# Altium footprint library FootprintLib.PcbLib: 23 footprints (part 2 of 2)
Each footprint in its own frame and in the unit in brackets; x right, y up, seen from the top. Pads: shape width x height; smd on the part's side, far side on the other; paste and mask are expansions set on the pad; w line width, h text height; cw(c..) or ccw(c..) is an arc to the next point about the centre after c.
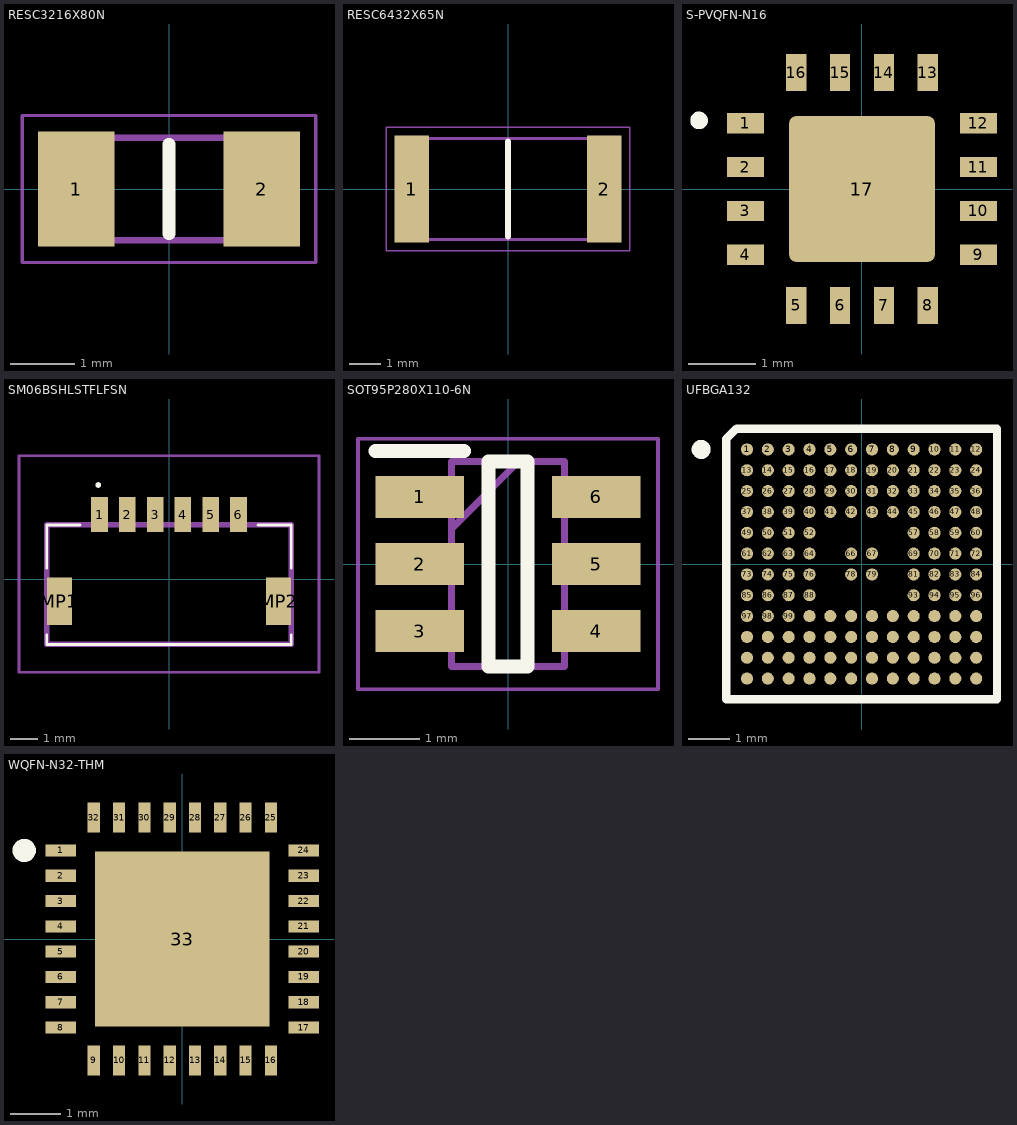
[diagram p1: the footprints below, top view; thin cyan lines are the x and y axes]

## RESC3216X80N [mm]
pads (2):
  rect 1.2x1.8 smd: 1(-1.45,0) 2(1.45,0)
Top Overlay:
  lines w0.2: 0,-0.7 0,0.7
Mechanical 13:
  lines w0.1: -1.6,-0.8 1.6,-0.8 1.6,0.8 -1.6,0.8 -1.6,-0.8
Mechanical 15:
  lines w0.05: -2.3,-1.15 2.3,-1.15 2.3,1.15 -2.3,1.15 -2.3,-1.15
3D body "LRMAM1206-R005FT5.stp": height 0.8, standoff 0, extent -1.6,-0.8 1.6,0.8

## RESC6432X65N [mm]
pads (2):
  rect 1.1x3.4 smd: 1(-3.05,0) 2(3.05,0)
Top Overlay:
  lines w0.2: 0,-1.5 0,1.5
Mechanical 13:
  lines w0.1: -3.175,-1.6 3.175,-1.6 3.175,1.6 -3.175,1.6 -3.175,-1.6
Mechanical 15:
  lines w0.05: -3.85,-1.95 3.85,-1.95 3.85,1.95 -3.85,1.95 -3.85,-1.95
3D body "CRGCQ2512F18R.stp": height 0.65, standoff 0, extent -3.175,-1.6 3.175,1.6

## S-PVQFN-N16 [mm]
pads (17):
  rect 0.55x0.3 smd: 1(-1.725,0.975) 2(-1.725,0.325) 3(-1.725,-0.325) 4(-1.725,-0.975) 9(1.725,-0.975) 10(1.725,-0.325) 11(1.725,0.325) 12(1.725,0.975)
  rect 0.3x0.55 smd: 5(-0.975,-1.725) 6(-0.325,-1.725) 7(0.325,-1.725) 8(0.975,-1.725) 13(0.975,1.725) 14(0.325,1.725) 15(-0.325,1.725) 16(-0.975,1.725)
  rrect10% 2.16x2.16 smd: 17(0,0)
Top Overlay:
  circle w0.2: c-2.413,1.016 r0.03
3D body "INA4290A5IRGVR.stp": height 1, standoff 0, extent -2,-2 2,2

## SM06BSHLSTFLFSN [mm]
pads (8):
  rect 0.6x1.25 smd: 1(-2.5,2.337) 2(-1.5,2.337) 3(-0.5,2.337) 4(0.5,2.337) 5(1.5,2.337) 6(2.5,2.337)
  rect 0.9x1.7 smd: MP1(-3.95,-0.788) MP2(3.95,-0.788)
Top Overlay:
  lines w0.1: -4.4,-2 -4.4,-2.337 4.4,-2.337 4.4,-2 ; -4.4,0.4 -4.4,1.962 -3.2,1.962 ; 3.2,1.962 4.4,1.962 4.4,0.4 ; -2.6,3.4 ccw(c-2.55,3.4) -2.5,3.4 ccw(c-2.55,3.4) -2.6,3.4
Mechanical 13:
  lines w0.2: -4.4,-2.337 4.4,-2.337 4.4,1.962 -4.4,1.962 -4.4,-2.337
Mechanical 15:
  lines w0.1: -5.4,-3.337 5.4,-3.337 5.4,4.45 -5.4,4.45 -5.4,-3.337
3D body "SM06B-SHLS-TF.STEP": height 1.8, standoff 0, extent -4.4,-2.5 4.4,2.5

## SOT95P280X110-6N [mm]
pads (6):
  rect 1.25x0.6 smd: 1(-1.25,0.95) 2(-1.25,0) 3(-1.25,-0.95) 4(1.25,-0.95) 5(1.25,0) 6(1.25,0.95)
Top Overlay:
  lines w0.2: -1.875,1.6 -0.625,1.6 ; -0.275,-1.45 0.275,-1.45 0.275,1.45 -0.275,1.45 -0.275,-1.45
Mechanical 13:
  lines w0.1: -0.8,0.5 0.15,1.45 ; -0.8,-1.45 0.8,-1.45 0.8,1.45 -0.8,1.45 -0.8,-1.45
Mechanical 15:
  lines w0.05: -2.125,-1.775 2.125,-1.775 2.125,1.775 -2.125,1.775 -2.125,-1.775
3D body "ADC121C021CIMK_NOPB.stp": height 0.97, standoff 0, extent -1.4,-1.45 1.4,1.45

## UFBGA132 [mm]
pads (132):
  round 0.29 smd: 1(-2.75,2.75) 2(-2.25,2.75) 3(-1.75,2.75) 4(-1.25,2.75) 5(-0.75,2.75) 6(-0.25,2.75) 7(0.25,2.75) 8(0.75,2.75) 9(1.25,2.75) 10(1.75,2.75) 11(2.25,2.75) 12(2.75,2.75) 13(-2.75,2.25) 14(-2.25,2.25) 15(-1.75,2.25) 16(-1.25,2.25) 17(-0.75,2.25) 18(-0.25,2.25) 19(0.25,2.25) 20(0.75,2.25) 21(1.25,2.25) 22(1.75,2.25) 23(2.25,2.25) 24(2.75,2.25) 25(-2.75,1.75) 26(-2.25,1.75) 27(-1.75,1.75) 28(-1.25,1.75) 29(-0.75,1.75) 30(-0.25,1.75) 31(0.25,1.75) 32(0.75,1.75) 33(1.25,1.75) 34(1.75,1.75) 35(2.25,1.75) 36(2.75,1.75) 37(-2.75,1.25) 38(-2.25,1.25) 39(-1.75,1.25) 40(-1.25,1.25) 41(-0.75,1.25) 42(-0.25,1.25) 43(0.25,1.25) 44(0.75,1.25) 45(1.25,1.25) 46(1.75,1.25) 47(2.25,1.25) 48(2.75,1.25) 49(-2.75,0.75) 50(-2.25,0.75) 51(-1.75,0.75) 52(-1.25,0.75) 57(1.25,0.75) 58(1.75,0.75) 59(2.25,0.75) 60(2.75,0.75) 61(-2.75,0.25) 62(-2.25,0.25) 63(-1.75,0.25) 64(-1.25,0.25) 66(-0.25,0.25) 67(0.25,0.25) 69(1.25,0.25) 70(1.75,0.25) 71(2.25,0.25) 72(2.75,0.25) 73(-2.75,-0.25) 74(-2.25,-0.25) 75(-1.75,-0.25) 76(-1.25,-0.25) 78(-0.25,-0.25) 79(0.25,-0.25) 81(1.25,-0.25) 82(1.75,-0.25) 83(2.25,-0.25) 84(2.75,-0.25) 85(-2.75,-0.75) 86(-2.25,-0.75) 87(-1.75,-0.75) 88(-1.25,-0.75) 93(1.25,-0.75) 94(1.75,-0.75) 95(2.25,-0.75) 96(2.75,-0.75) 97(-2.75,-1.25) 98(-2.25,-1.25) 99(-1.75,-1.25) 100(-1.25,-1.25) 101(-0.75,-1.25) 102(-0.25,-1.25) 103(0.25,-1.25) 104(0.75,-1.25) 105(1.25,-1.25) 106(1.75,-1.25) 107(2.25,-1.25) 108(2.75,-1.25) 109(-2.75,-1.75) 110(-2.25,-1.75) 111(-1.75,-1.75) 112(-1.25,-1.75) 113(-0.75,-1.75) 114(-0.25,-1.75) 115(0.25,-1.75) 116(0.75,-1.75) 117(1.25,-1.75) 118(1.75,-1.75) 119(2.25,-1.75) 120(2.75,-1.75) 121(-2.75,-2.25) 122(-2.25,-2.25) 123(-1.75,-2.25) 124(-1.25,-2.25) 125(-0.75,-2.25) 126(-0.25,-2.25) 127(0.25,-2.25) 128(0.75,-2.25) 129(1.25,-2.25) 130(1.75,-2.25) 131(2.25,-2.25) 132(2.75,-2.25) 133(-2.75,-2.75) 134(-2.25,-2.75) 135(-1.75,-2.75) 136(-1.25,-2.75) 137(-0.75,-2.75) 138(-0.25,-2.75) 139(0.25,-2.75) 140(0.75,-2.75) 141(1.25,-2.75) 142(1.75,-2.75) 143(2.25,-2.75) 144(2.75,-2.75)
Top Overlay:
  circle w0.254: c-3.85,2.75 r0.1
  lines w0.2: -3.25,-3.25 -3.25,3 -3,3.25 3.25,3.25 3.25,-3.25 -3.25,-3.25
3D body "STM32U585QII6.STEP": height 0.45, standoff -0.15, extent -3.5,-3.5 3.5,3.5

## WQFN-N32-THM [mm]
pads (33):
  rect 0.6x0.24 smd mask+0.075: 1(-2.4,1.75) 2(-2.4,1.25) 3(-2.4,0.75) 4(-2.4,0.25) 5(-2.4,-0.25) 6(-2.4,-0.75) 7(-2.4,-1.25) 8(-2.4,-1.75) 17(2.4,-1.75) 18(2.4,-1.25) 19(2.4,-0.75) 20(2.4,-0.25) 21(2.4,0.25) 22(2.4,0.75) 23(2.4,1.25) 24(2.4,1.75)
  rect 0.24x0.6 smd mask+0.075: 9(-1.75,-2.4) 10(-1.25,-2.4) 11(-0.75,-2.4) 12(-0.25,-2.4) 13(0.25,-2.4) 14(0.75,-2.4) 15(1.25,-2.4) 16(1.75,-2.4) 25(1.75,2.4) 26(1.25,2.4) 27(0.75,2.4) 28(0.25,2.4) 29(-0.25,2.4) 30(-0.75,2.4) 31(-1.25,2.4) 32(-1.75,2.4)
  rect 3.45x3.45 smd: 33(0,0)
Top Overlay:
  circle w0.254: c-3.125,1.75 r0.103
3D body "DRV8350FS.STEP": height 0.8, standoff 0, extent -2.575,-2.575 2.575,2.575